# Altium integrated library Capacitors - Ceramic - 0402.IntLib: 4569 symbols (part 80 of 100)
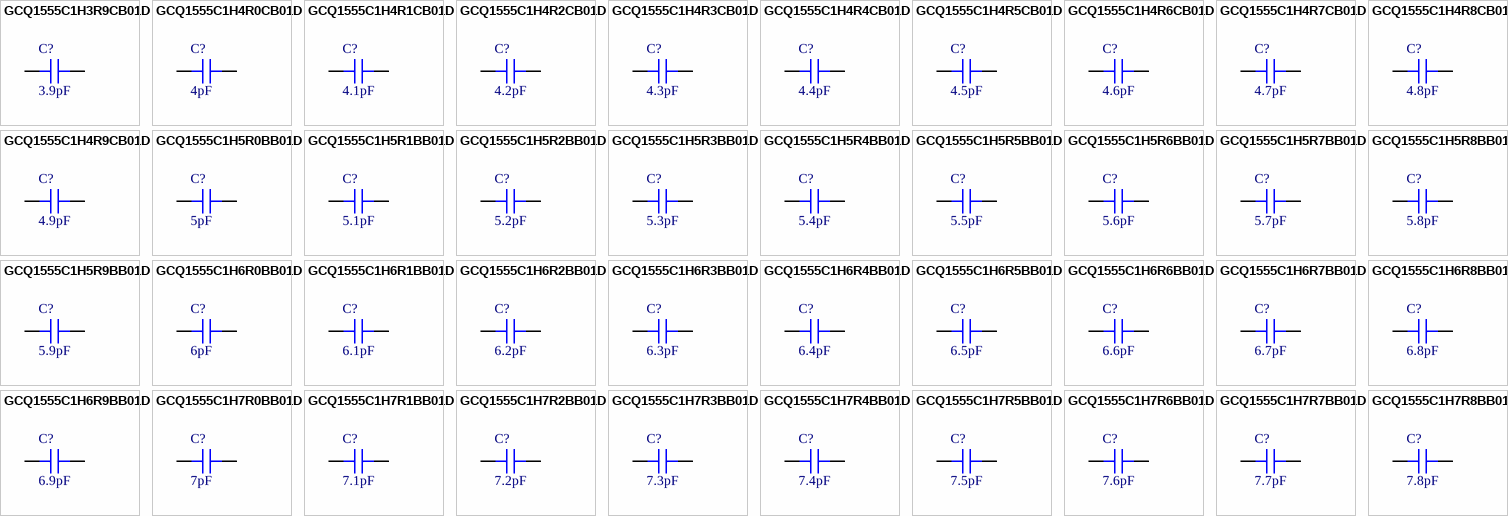
[diagram p193: symbols GCQ1555C1H3R9CB01D to GCQ1555C1H7R8BB01D]

## GCQ1555C1H5R9BB01D
designator C?, comment 5.9pF
CAP CER 5.9PF 50V C0G/NP0 0402; Part Number: GCQ1555C1H5R9BB01D; Manufacturer: Murata Electronics; Temperature Coefficient: C0G, NP0; Tolerance: ±0.1pF; Value: 5.9pF; Applications: RF, Microwave, High Frequency, Automotive; Capacitance: 5.9pF; ComponentLink1Description: Datasheet; ComponentLink1URL: https://search.murata.co.jp/Ceramy/image/img/A01X/G101/ENG/GCQ1555C1H5R9BB01-01.pdf; ComponentLink2Description: DigiKey Link; ComponentLink2URL: http://digikey.com/product-detail/en/murata-electronics/GCQ1555C1H5R9BB01D/490-17492-1-ND/7897664; Device Package: 0402 (1005 Metric); LastUpdated: 9/2/2020 1:01:52 AM; Lifecycle Status: Active; Minimum Order: 1; Mounting Type: Surface Mount, MLCC; Operating Temperature: -55°C ~ 125°C; Package / Case: 0402 (1005 Metric); Packaging: TapeAndReel; PartId: 12135; Part Status: Active; Price: 0.06; Ratings: AEC-Q200; Series: GCQ; Size / Dimension: 0.039" L x 0.020" W (1.00mm x 0.50mm); Supplier 1: DigiKey; Supplier Part Number 1: 490-17492-1-ND; Thickness (Max): 0.022" (0.55mm); Voltage - Rated: 50V
footprint CAP 0402_1005
pins: 1, 2

## GCQ1555C1H6R0BB01D
designator C?, comment 6pF
CAP CER 6PF 50V C0G/NP0 0402; Part Number: GCQ1555C1H6R0BB01D; Manufacturer: Murata Electronics; Temperature Coefficient: C0G, NP0; Tolerance: ±0.1pF; Value: 6pF; Applications: RF, Microwave, High Frequency, Automotive; Capacitance: 6pF; ComponentLink1Description: Datasheet; ComponentLink1URL: https://search.murata.co.jp/Ceramy/image/img/A01X/G101/ENG/GCQ1555C1H6R0BB01-01.pdf; ComponentLink2Description: DigiKey Link; ComponentLink2URL: http://digikey.com/product-detail/en/murata-electronics/GCQ1555C1H6R0BB01D/490-17493-1-ND/7897665; Device Package: 0402 (1005 Metric); LastUpdated: 9/2/2020 1:01:47 AM; Lifecycle Status: Active; Minimum Order: 1; Mounting Type: Surface Mount, MLCC; Operating Temperature: -55°C ~ 125°C; Package / Case: 0402 (1005 Metric); Packaging: TapeAndReel; PartId: 12294; Part Status: Active; Price: 0.06; Ratings: AEC-Q200; Series: GCQ; Size / Dimension: 0.039" L x 0.020" W (1.00mm x 0.50mm); Supplier 1: DigiKey; Supplier Part Number 1: 490-17493-1-ND; Thickness (Max): 0.022" (0.55mm); Voltage - Rated: 50V
footprint CAP 0402_1005
pins: 1, 2

## GCQ1555C1H6R1BB01D
designator C?, comment 6.1pF
CAP CER 6.1PF 50V C0G/NP0 0402; Part Number: GCQ1555C1H6R1BB01D; Manufacturer: Murata Electronics; Temperature Coefficient: C0G, NP0; Tolerance: ±0.1pF; Value: 6.1pF; Applications: RF, Microwave, High Frequency, Automotive; Capacitance: 6.1pF; ComponentLink1Description: Datasheet; ComponentLink1URL: https://search.murata.co.jp/Ceramy/image/img/A01X/G101/ENG/GCQ1555C1H6R1BB01-01.pdf; ComponentLink2Description: DigiKey Link; ComponentLink2URL: http://digikey.com/product-detail/en/murata-electronics/GCQ1555C1H6R1BB01D/490-17494-1-ND/7897666; Device Package: 0402 (1005 Metric); LastUpdated: 9/2/2020 1:01:18 AM; Lifecycle Status: Active; Minimum Order: 1; Mounting Type: Surface Mount, MLCC; Operating Temperature: -55°C ~ 125°C; Package / Case: 0402 (1005 Metric); Packaging: TapeAndReel; PartId: 13299; Part Status: Active; Price: 0.06; Ratings: AEC-Q200; Series: GCQ; Size / Dimension: 0.039" L x 0.020" W (1.00mm x 0.50mm); Supplier 1: DigiKey; Supplier Part Number 1: 490-17494-1-ND; Thickness (Max): 0.022" (0.55mm); Voltage - Rated: 50V
footprint CAP 0402_1005
pins: 1, 2

## GCQ1555C1H6R2BB01D
designator C?, comment 6.2pF
CAP CER 6.2PF 50V C0G/NP0 0402; Part Number: GCQ1555C1H6R2BB01D; Manufacturer: Murata Electronics; Temperature Coefficient: C0G, NP0; Tolerance: ±0.1pF; Value: 6.2pF; Applications: RF, Microwave, High Frequency, Automotive; Capacitance: 6.2pF; ComponentLink1Description: Datasheet; ComponentLink1URL: https://search.murata.co.jp/Ceramy/image/img/A01X/G101/ENG/GCQ1555C1H6R2BB01-01.pdf; ComponentLink2Description: DigiKey Link; ComponentLink2URL: http://digikey.com/product-detail/en/murata-electronics/GCQ1555C1H6R2BB01D/490-17495-1-ND/7897667; Device Package: 0402 (1005 Metric); LastUpdated: 9/2/2020 1:01:50 AM; Lifecycle Status: Active; Minimum Order: 1; Mounting Type: Surface Mount, MLCC; Operating Temperature: -55°C ~ 125°C; Package / Case: 0402 (1005 Metric); Packaging: TapeAndReel; PartId: 12191; Part Status: Active; Price: 0.06; Ratings: AEC-Q200; Series: GCQ; Size / Dimension: 0.039" L x 0.020" W (1.00mm x 0.50mm); Supplier 1: DigiKey; Supplier Part Number 1: 490-17495-1-ND; Thickness (Max): 0.022" (0.55mm); Voltage - Rated: 50V
footprint CAP 0402_1005
pins: 1, 2

## GCQ1555C1H6R3BB01D
designator C?, comment 6.3pF
CAP CER 6.3PF 50V C0G/NP0 0402; Part Number: GCQ1555C1H6R3BB01D; Manufacturer: Murata Electronics; Temperature Coefficient: C0G, NP0; Tolerance: ±0.1pF; Value: 6.3pF; Applications: RF, Microwave, High Frequency, Automotive; Capacitance: 6.3pF; ComponentLink1Description: Datasheet; ComponentLink1URL: https://search.murata.co.jp/Ceramy/image/img/A01X/G101/ENG/GCQ1555C1H6R3BB01-01.pdf; ComponentLink2Description: DigiKey Link; ComponentLink2URL: http://digikey.com/product-detail/en/murata-electronics/GCQ1555C1H6R3BB01D/490-17496-1-ND/7897668; Device Package: 0402 (1005 Metric); LastUpdated: 9/2/2020 1:01:51 AM; Lifecycle Status: Active; Minimum Order: 1; Mounting Type: Surface Mount, MLCC; Operating Temperature: -55°C ~ 125°C; Package / Case: 0402 (1005 Metric); Packaging: TapeAndReel; PartId: 12161; Part Status: Active; Price: 0.06; Ratings: AEC-Q200; Series: GCQ; Size / Dimension: 0.039" L x 0.020" W (1.00mm x 0.50mm); Supplier 1: DigiKey; Supplier Part Number 1: 490-17496-1-ND; Thickness (Max): 0.022" (0.55mm); Voltage - Rated: 50V
footprint CAP 0402_1005
pins: 1, 2

## GCQ1555C1H6R4BB01D
designator C?, comment 6.4pF
CAP CER 6.4PF 50V C0G/NP0 0402; Part Number: GCQ1555C1H6R4BB01D; Manufacturer: Murata Electronics; Temperature Coefficient: C0G, NP0; Tolerance: ±0.1pF; Value: 6.4pF; Applications: RF, Microwave, High Frequency, Automotive; Capacitance: 6.4pF; ComponentLink1Description: Datasheet; ComponentLink1URL: https://search.murata.co.jp/Ceramy/image/img/A01X/G101/ENG/GCQ1555C1H6R4BB01-01.pdf; ComponentLink2Description: DigiKey Link; ComponentLink2URL: http://digikey.com/product-detail/en/murata-electronics/GCQ1555C1H6R4BB01D/490-17497-1-ND/7897669; Device Package: 0402 (1005 Metric); LastUpdated: 9/2/2020 1:01:49 AM; Lifecycle Status: Active; Minimum Order: 1; Mounting Type: Surface Mount, MLCC; Operating Temperature: -55°C ~ 125°C; Package / Case: 0402 (1005 Metric); Packaging: TapeAndReel; PartId: 12234; Part Status: Active; Price: 0.06; Ratings: AEC-Q200; Series: GCQ; Size / Dimension: 0.039" L x 0.020" W (1.00mm x 0.50mm); Supplier 1: DigiKey; Supplier Part Number 1: 490-17497-1-ND; Thickness (Max): 0.022" (0.55mm); Voltage - Rated: 50V
footprint CAP 0402_1005
pins: 1, 2

## GCQ1555C1H6R5BB01D
designator C?, comment 6.5pF
CAP CER 6.5PF 50V C0G/NP0 0402; Part Number: GCQ1555C1H6R5BB01D; Manufacturer: Murata Electronics; Temperature Coefficient: C0G, NP0; Tolerance: ±0.1pF; Value: 6.5pF; Applications: RF, Microwave, High Frequency, Automotive; Capacitance: 6.5pF; ComponentLink1Description: Datasheet; ComponentLink1URL: https://search.murata.co.jp/Ceramy/image/img/A01X/G101/ENG/GCQ1555C1H6R5BB01-01.pdf; ComponentLink2Description: DigiKey Link; ComponentLink2URL: http://digikey.com/product-detail/en/murata-electronics/GCQ1555C1H6R5BB01D/490-17498-1-ND/7897670; Device Package: 0402 (1005 Metric); LastUpdated: 9/2/2020 1:01:49 AM; Lifecycle Status: Active; Minimum Order: 1; Mounting Type: Surface Mount, MLCC; Operating Temperature: -55°C ~ 125°C; Package / Case: 0402 (1005 Metric); Packaging: TapeAndReel; PartId: 12249; Part Status: Active; Price: 0.06; Ratings: AEC-Q200; Series: GCQ; Size / Dimension: 0.039" L x 0.020" W (1.00mm x 0.50mm); Supplier 1: DigiKey; Supplier Part Number 1: 490-17498-1-ND; Thickness (Max): 0.022" (0.55mm); Voltage - Rated: 50V
footprint CAP 0402_1005
pins: 1, 2

## GCQ1555C1H6R6BB01D
designator C?, comment 6.6pF
CAP CER 6.6PF 50V C0G/NP0 0402; Part Number: GCQ1555C1H6R6BB01D; Manufacturer: Murata Electronics; Temperature Coefficient: C0G, NP0; Tolerance: ±0.1pF; Value: 6.6pF; Applications: RF, Microwave, High Frequency, Automotive; Capacitance: 6.6pF; ComponentLink1Description: Datasheet; ComponentLink1URL: https://search.murata.co.jp/Ceramy/image/img/A01X/G101/ENG/GCQ1555C1H6R6BB01-01.pdf; ComponentLink2Description: DigiKey Link; ComponentLink2URL: http://digikey.com/product-detail/en/murata-electronics/GCQ1555C1H6R6BB01D/490-17499-1-ND/7897671; Device Package: 0402 (1005 Metric); LastUpdated: 9/2/2020 1:01:17 AM; Lifecycle Status: Active; Minimum Order: 1; Mounting Type: Surface Mount, MLCC; Operating Temperature: -55°C ~ 125°C; Package / Case: 0402 (1005 Metric); Packaging: TapeAndReel; PartId: 13320; Part Status: Active; Price: 0.06; Ratings: AEC-Q200; Series: GCQ; Size / Dimension: 0.039" L x 0.020" W (1.00mm x 0.50mm); Supplier 1: DigiKey; Supplier Part Number 1: 490-17499-1-ND; Thickness (Max): 0.022" (0.55mm); Voltage - Rated: 50V
footprint CAP 0402_1005
pins: 1, 2

## GCQ1555C1H6R7BB01D
designator C?, comment 6.7pF
CAP CER 6.7PF 50V C0G/NP0 0402; Part Number: GCQ1555C1H6R7BB01D; Manufacturer: Murata Electronics; Temperature Coefficient: C0G, NP0; Tolerance: ±0.1pF; Value: 6.7pF; Applications: RF, Microwave, High Frequency, Automotive; Capacitance: 6.7pF; ComponentLink1Description: Datasheet; ComponentLink1URL: https://search.murata.co.jp/Ceramy/image/img/A01X/G101/ENG/GCQ1555C1H6R7BB01-01.pdf; ComponentLink2Description: DigiKey Link; ComponentLink2URL: http://digikey.com/product-detail/en/murata-electronics/GCQ1555C1H6R7BB01D/490-17500-1-ND/7897672; Device Package: 0402 (1005 Metric); LastUpdated: 9/2/2020 1:01:51 AM; Lifecycle Status: Active; Minimum Order: 1; Mounting Type: Surface Mount, MLCC; Operating Temperature: -55°C ~ 125°C; Package / Case: 0402 (1005 Metric); Packaging: TapeAndReel; PartId: 12141; Part Status: Active; Price: 0.06; Ratings: AEC-Q200; Series: GCQ; Size / Dimension: 0.039" L x 0.020" W (1.00mm x 0.50mm); Supplier 1: DigiKey; Supplier Part Number 1: 490-17500-1-ND; Thickness (Max): 0.022" (0.55mm); Voltage - Rated: 50V
footprint CAP 0402_1005
pins: 1, 2

## GCQ1555C1H6R8BB01D
designator C?, comment 6.8pF
CAP CER 6.8PF 50V C0G/NP0 0402; Part Number: GCQ1555C1H6R8BB01D; Manufacturer: Murata Electronics; Temperature Coefficient: C0G, NP0; Tolerance: ±0.1pF; Value: 6.8pF; Applications: RF, Microwave, High Frequency, Automotive; Capacitance: 6.8pF; ComponentLink1Description: Datasheet; ComponentLink1URL: https://search.murata.co.jp/Ceramy/image/img/A01X/G101/ENG/GCQ1555C1H6R8BB01-01.pdf; ComponentLink2Description: DigiKey Link; ComponentLink2URL: http://digikey.com/product-detail/en/murata-electronics/GCQ1555C1H6R8BB01D/490-17501-1-ND/7897673; Device Package: 0402 (1005 Metric); LastUpdated: 9/2/2020 1:01:50 AM; Lifecycle Status: Active; Minimum Order: 1; Mounting Type: Surface Mount, MLCC; Operating Temperature: -55°C ~ 125°C; Package / Case: 0402 (1005 Metric); Packaging: TapeAndReel; PartId: 12185; Part Status: Active; Price: 0.06; Ratings: AEC-Q200; Series: GCQ; Size / Dimension: 0.039" L x 0.020" W (1.00mm x 0.50mm); Supplier 1: DigiKey; Supplier Part Number 1: 490-17501-1-ND; Thickness (Max): 0.022" (0.55mm); Voltage - Rated: 50V
footprint CAP 0402_1005
pins: 1, 2

## GCQ1555C1H6R9BB01D
designator C?, comment 6.9pF
CAP CER 6.9PF 50V C0G/NP0 0402; Part Number: GCQ1555C1H6R9BB01D; Manufacturer: Murata Electronics; Temperature Coefficient: C0G, NP0; Tolerance: ±0.1pF; Value: 6.9pF; Applications: RF, Microwave, High Frequency, Automotive; Capacitance: 6.9pF; ComponentLink1Description: Datasheet; ComponentLink1URL: https://search.murata.co.jp/Ceramy/image/img/A01X/G101/ENG/GCQ1555C1H6R9BB01-01.pdf; ComponentLink2Description: DigiKey Link; ComponentLink2URL: http://digikey.com/product-detail/en/murata-electronics/GCQ1555C1H6R9BB01D/490-17502-1-ND/7897674; Device Package: 0402 (1005 Metric); LastUpdated: 9/2/2020 1:01:18 AM; Lifecycle Status: Active; Minimum Order: 1; Mounting Type: Surface Mount, MLCC; Operating Temperature: -55°C ~ 125°C; Package / Case: 0402 (1005 Metric); Packaging: TapeAndReel; PartId: 13293; Part Status: Active; Price: 0.06; Ratings: AEC-Q200; Series: GCQ; Size / Dimension: 0.039" L x 0.020" W (1.00mm x 0.50mm); Supplier 1: DigiKey; Supplier Part Number 1: 490-17502-1-ND; Thickness (Max): 0.022" (0.55mm); Voltage - Rated: 50V
footprint CAP 0402_1005
pins: 1, 2

## GCQ1555C1H7R0BB01D
designator C?, comment 7pF
CAP CER 7PF 50V C0G/NP0 0402; Part Number: GCQ1555C1H7R0BB01D; Manufacturer: Murata Electronics; Temperature Coefficient: C0G, NP0; Tolerance: ±0.1pF; Value: 7pF; Applications: RF, Microwave, High Frequency, Automotive; Capacitance: 7pF; ComponentLink1Description: Datasheet; ComponentLink1URL: https://search.murata.co.jp/Ceramy/image/img/A01X/G101/ENG/GCQ1555C1H7R0BB01-01.pdf; ComponentLink2Description: DigiKey Link; ComponentLink2URL: http://digikey.com/product-detail/en/murata-electronics/GCQ1555C1H7R0BB01D/490-17503-1-ND/7897675; Device Package: 0402 (1005 Metric); LastUpdated: 9/2/2020 1:01:49 AM; Lifecycle Status: Active; Minimum Order: 1; Mounting Type: Surface Mount, MLCC; Operating Temperature: -55°C ~ 125°C; Package / Case: 0402 (1005 Metric); Packaging: TapeAndReel; PartId: 12252; Part Status: Active; Price: 0.06; Ratings: AEC-Q200; Series: GCQ; Size / Dimension: 0.039" L x 0.020" W (1.00mm x 0.50mm); Supplier 1: DigiKey; Supplier Part Number 1: 490-17503-1-ND; Thickness (Max): 0.022" (0.55mm); Voltage - Rated: 50V
footprint CAP 0402_1005
pins: 1, 2

## GCQ1555C1H7R1BB01D
designator C?, comment 7.1pF
CAP CER 7.1PF 50V C0G/NP0 0402; Part Number: GCQ1555C1H7R1BB01D; Manufacturer: Murata Electronics; Temperature Coefficient: C0G, NP0; Tolerance: ±0.1pF; Value: 7.1pF; Applications: RF, Microwave, High Frequency, Automotive; Capacitance: 7.1pF; ComponentLink1Description: Datasheet; ComponentLink1URL: https://search.murata.co.jp/Ceramy/image/img/A01X/G101/ENG/GCQ1555C1H7R1BB01-01.pdf; ComponentLink2Description: DigiKey Link; ComponentLink2URL: http://digikey.com/product-detail/en/murata-electronics/GCQ1555C1H7R1BB01D/490-17504-1-ND/7897676; Device Package: 0402 (1005 Metric); LastUpdated: 9/2/2020 1:01:50 AM; Lifecycle Status: Active; Minimum Order: 1; Mounting Type: Surface Mount, MLCC; Operating Temperature: -55°C ~ 125°C; Package / Case: 0402 (1005 Metric); Packaging: TapeAndReel; PartId: 12176; Part Status: Active; Price: 0.06; Ratings: AEC-Q200; Series: GCQ; Size / Dimension: 0.039" L x 0.020" W (1.00mm x 0.50mm); Supplier 1: DigiKey; Supplier Part Number 1: 490-17504-1-ND; Thickness (Max): 0.022" (0.55mm); Voltage - Rated: 50V
footprint CAP 0402_1005
pins: 1, 2

## GCQ1555C1H7R2BB01D
designator C?, comment 7.2pF
CAP CER 7.2PF 50V C0G/NP0 0402; Part Number: GCQ1555C1H7R2BB01D; Manufacturer: Murata Electronics; Temperature Coefficient: C0G, NP0; Tolerance: ±0.1pF; Value: 7.2pF; Applications: RF, Microwave, High Frequency, Automotive; Capacitance: 7.2pF; ComponentLink1Description: Datasheet; ComponentLink1URL: https://search.murata.co.jp/Ceramy/image/img/A01X/G101/ENG/GCQ1555C1H7R2BB01-01.pdf; ComponentLink2Description: DigiKey Link; ComponentLink2URL: http://digikey.com/product-detail/en/murata-electronics/GCQ1555C1H7R2BB01D/490-17505-1-ND/7897677; Device Package: 0402 (1005 Metric); LastUpdated: 9/2/2020 1:01:49 AM; Lifecycle Status: Active; Minimum Order: 1; Mounting Type: Surface Mount, MLCC; Operating Temperature: -55°C ~ 125°C; Package / Case: 0402 (1005 Metric); Packaging: TapeAndReel; PartId: 12222; Part Status: Active; Price: 0.06; Ratings: AEC-Q200; Series: GCQ; Size / Dimension: 0.039" L x 0.020" W (1.00mm x 0.50mm); Supplier 1: DigiKey; Supplier Part Number 1: 490-17505-1-ND; Thickness (Max): 0.022" (0.55mm); Voltage - Rated: 50V
footprint CAP 0402_1005
pins: 1, 2

## GCQ1555C1H7R3BB01D
designator C?, comment 7.3pF
CAP CER 7.3PF 50V C0G/NP0 0402; Part Number: GCQ1555C1H7R3BB01D; Manufacturer: Murata Electronics; Temperature Coefficient: C0G, NP0; Tolerance: ±0.1pF; Value: 7.3pF; Applications: RF, Microwave, High Frequency, Automotive; Capacitance: 7.3pF; ComponentLink1Description: Datasheet; ComponentLink1URL: https://search.murata.co.jp/Ceramy/image/img/A01X/G101/ENG/GCQ1555C1H7R3BB01-01.pdf; ComponentLink2Description: DigiKey Link; ComponentLink2URL: http://digikey.com/product-detail/en/murata-electronics/GCQ1555C1H7R3BB01D/490-17506-1-ND/7897678; Device Package: 0402 (1005 Metric); LastUpdated: 9/2/2020 1:01:52 AM; Lifecycle Status: Active; Minimum Order: 1; Mounting Type: Surface Mount, MLCC; Operating Temperature: -55°C ~ 125°C; Package / Case: 0402 (1005 Metric); Packaging: TapeAndReel; PartId: 12132; Part Status: Active; Price: 0.06; Ratings: AEC-Q200; Series: GCQ; Size / Dimension: 0.039" L x 0.020" W (1.00mm x 0.50mm); Supplier 1: DigiKey; Supplier Part Number 1: 490-17506-1-ND; Thickness (Max): 0.022" (0.55mm); Voltage - Rated: 50V
footprint CAP 0402_1005
pins: 1, 2

## GCQ1555C1H7R4BB01D
designator C?, comment 7.4pF
CAP CER 7.4PF 50V C0G/NP0 0402; Part Number: GCQ1555C1H7R4BB01D; Manufacturer: Murata Electronics; Temperature Coefficient: C0G, NP0; Tolerance: ±0.1pF; Value: 7.4pF; Applications: RF, Microwave, High Frequency, Automotive; Capacitance: 7.4pF; ComponentLink1Description: Datasheet; ComponentLink1URL: https://search.murata.co.jp/Ceramy/image/img/A01X/G101/ENG/GCQ1555C1H7R4BB01-01.pdf; ComponentLink2Description: DigiKey Link; ComponentLink2URL: http://digikey.com/product-detail/en/murata-electronics/GCQ1555C1H7R4BB01D/490-17507-1-ND/7897679; Device Package: 0402 (1005 Metric); LastUpdated: 9/2/2020 1:01:51 AM; Lifecycle Status: Active; Minimum Order: 1; Mounting Type: Surface Mount, MLCC; Operating Temperature: -55°C ~ 125°C; Package / Case: 0402 (1005 Metric); Packaging: TapeAndReel; PartId: 12173; Part Status: Active; Price: 0.06; Ratings: AEC-Q200; Series: GCQ; Size / Dimension: 0.039" L x 0.020" W (1.00mm x 0.50mm); Supplier 1: DigiKey; Supplier Part Number 1: 490-17507-1-ND; Thickness (Max): 0.022" (0.55mm); Voltage - Rated: 50V
footprint CAP 0402_1005
pins: 1, 2

## GCQ1555C1H7R5BB01D
designator C?, comment 7.5pF
CAP CER 7.5PF 50V C0G/NP0 0402; Part Number: GCQ1555C1H7R5BB01D; Manufacturer: Murata Electronics; Temperature Coefficient: C0G, NP0; Tolerance: ±0.1pF; Value: 7.5pF; Applications: RF, Microwave, High Frequency, Automotive; Capacitance: 7.5pF; ComponentLink1Description: Datasheet; ComponentLink1URL: https://search.murata.co.jp/Ceramy/image/img/A01X/G101/ENG/GCQ1555C1H7R5BB01-01.pdf; ComponentLink2Description: DigiKey Link; ComponentLink2URL: http://digikey.com/product-detail/en/murata-electronics/GCQ1555C1H7R5BB01D/490-17508-1-ND/7897680; Device Package: 0402 (1005 Metric); LastUpdated: 9/2/2020 1:01:50 AM; Lifecycle Status: Active; Minimum Order: 1; Mounting Type: Surface Mount, MLCC; Operating Temperature: -55°C ~ 125°C; Package / Case: 0402 (1005 Metric); Packaging: TapeAndReel; PartId: 12187; Part Status: Active; Price: 0.06; Ratings: AEC-Q200; Series: GCQ; Size / Dimension: 0.039" L x 0.020" W (1.00mm x 0.50mm); Supplier 1: DigiKey; Supplier Part Number 1: 490-17508-1-ND; Thickness (Max): 0.022" (0.55mm); Voltage - Rated: 50V
footprint CAP 0402_1005
pins: 1, 2

## GCQ1555C1H7R6BB01D
designator C?, comment 7.6pF
CAP CER 7.6PF 50V C0G/NP0 0402; Part Number: GCQ1555C1H7R6BB01D; Manufacturer: Murata Electronics; Temperature Coefficient: C0G, NP0; Tolerance: ±0.1pF; Value: 7.6pF; Applications: RF, Microwave, High Frequency, Automotive; Capacitance: 7.6pF; ComponentLink1Description: Datasheet; ComponentLink1URL: https://search.murata.co.jp/Ceramy/image/img/A01X/G101/ENG/GCQ1555C1H7R6BB01-01.pdf; ComponentLink2Description: DigiKey Link; ComponentLink2URL: http://digikey.com/product-detail/en/murata-electronics/GCQ1555C1H7R6BB01D/490-17509-1-ND/7897681; Device Package: 0402 (1005 Metric); LastUpdated: 9/2/2020 1:01:50 AM; Lifecycle Status: Active; Minimum Order: 1; Mounting Type: Surface Mount, MLCC; Operating Temperature: -55°C ~ 125°C; Package / Case: 0402 (1005 Metric); Packaging: TapeAndReel; PartId: 12210; Part Status: Active; Price: 0.06; Ratings: AEC-Q200; Series: GCQ; Size / Dimension: 0.039" L x 0.020" W (1.00mm x 0.50mm); Supplier 1: DigiKey; Supplier Part Number 1: 490-17509-1-ND; Thickness (Max): 0.022" (0.55mm); Voltage - Rated: 50V
footprint CAP 0402_1005
pins: 1, 2

## GCQ1555C1H7R7BB01D
designator C?, comment 7.7pF
CAP CER 7.7PF 50V C0G/NP0 0402; Part Number: GCQ1555C1H7R7BB01D; Manufacturer: Murata Electronics; Temperature Coefficient: C0G, NP0; Tolerance: ±0.1pF; Value: 7.7pF; Applications: RF, Microwave, High Frequency, Automotive; Capacitance: 7.7pF; ComponentLink1Description: Datasheet; ComponentLink1URL: https://search.murata.co.jp/Ceramy/image/img/A01X/G101/ENG/GCQ1555C1H7R7BB01-01.pdf; ComponentLink2Description: DigiKey Link; ComponentLink2URL: http://digikey.com/product-detail/en/murata-electronics/GCQ1555C1H7R7BB01D/490-17510-1-ND/7897682; Device Package: 0402 (1005 Metric); LastUpdated: 9/2/2020 1:01:50 AM; Lifecycle Status: Active; Minimum Order: 1; Mounting Type: Surface Mount, MLCC; Operating Temperature: -55°C ~ 125°C; Package / Case: 0402 (1005 Metric); Packaging: TapeAndReel; PartId: 12200; Part Status: Active; Price: 0.06; Ratings: AEC-Q200; Series: GCQ; Size / Dimension: 0.039" L x 0.020" W (1.00mm x 0.50mm); Supplier 1: DigiKey; Supplier Part Number 1: 490-17510-1-ND; Thickness (Max): 0.022" (0.55mm); Voltage - Rated: 50V
footprint CAP 0402_1005
pins: 1, 2

## GCQ1555C1H7R8BB01D
designator C?, comment 7.8pF
CAP CER 7.8PF 50V C0G/NP0 0402; Part Number: GCQ1555C1H7R8BB01D; Manufacturer: Murata Electronics; Temperature Coefficient: C0G, NP0; Tolerance: ±0.1pF; Value: 7.8pF; Applications: RF, Microwave, High Frequency, Automotive; Capacitance: 7.8pF; ComponentLink1Description: Datasheet; ComponentLink1URL: https://search.murata.co.jp/Ceramy/image/img/A01X/G101/ENG/GCQ1555C1H7R8BB01-01.pdf; ComponentLink2Description: DigiKey Link; ComponentLink2URL: http://digikey.com/product-detail/en/murata-electronics/GCQ1555C1H7R8BB01D/490-17511-1-ND/7897683; Device Package: 0402 (1005 Metric); LastUpdated: 9/2/2020 1:01:51 AM; Lifecycle Status: Active; Minimum Order: 1; Mounting Type: Surface Mount, MLCC; Operating Temperature: -55°C ~ 125°C; Package / Case: 0402 (1005 Metric); Packaging: TapeAndReel; PartId: 12158; Part Status: Active; Price: 0.06; Ratings: AEC-Q200; Series: GCQ; Size / Dimension: 0.039" L x 0.020" W (1.00mm x 0.50mm); Supplier 1: DigiKey; Supplier Part Number 1: 490-17511-1-ND; Thickness (Max): 0.022" (0.55mm); Voltage - Rated: 50V
footprint CAP 0402_1005
pins: 1, 2

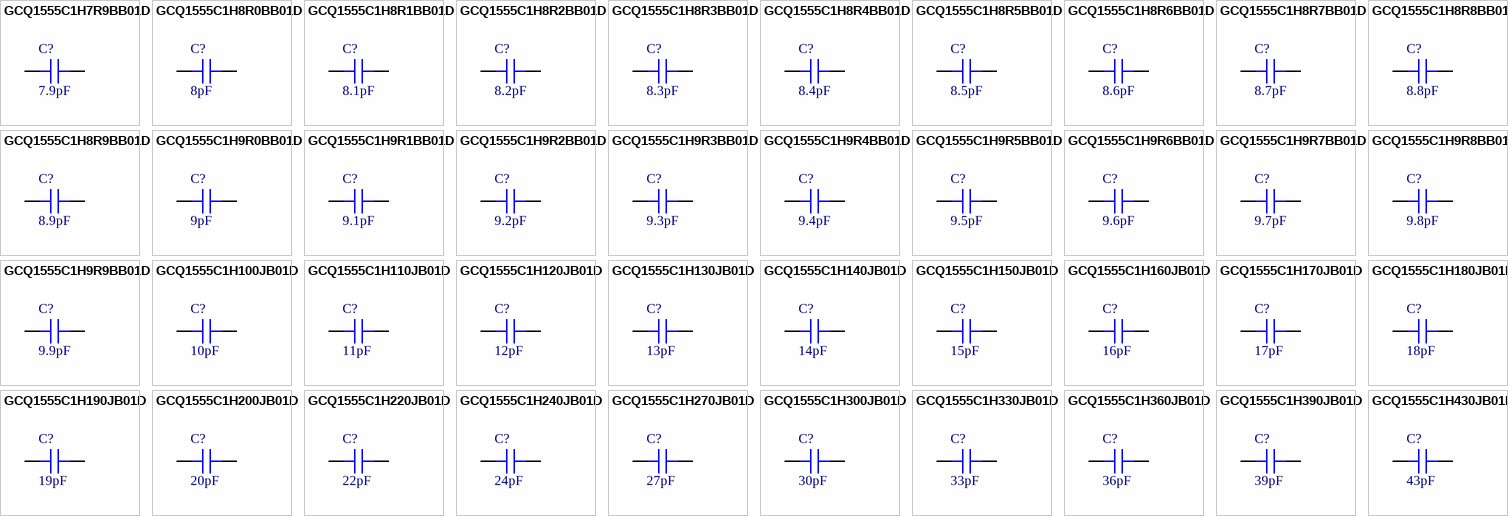
[diagram p91: symbols GCQ1555C1H7R9BB01D to GCQ1555C1H430JB01D]

## GCQ1555C1H7R9BB01D
designator C?, comment 7.9pF
CAP CER 7.9PF 50V C0G/NP0 0402; Part Number: GCQ1555C1H7R9BB01D; Manufacturer: Murata Electronics; Temperature Coefficient: C0G, NP0; Tolerance: ±0.1pF; Value: 7.9pF; Applications: RF, Microwave, High Frequency, Automotive; Capacitance: 7.9pF; ComponentLink1Description: Datasheet; ComponentLink1URL: https://search.murata.co.jp/Ceramy/image/img/A01X/G101/ENG/GCQ1555C1H7R9BB01-01.pdf; ComponentLink2Description: DigiKey Link; ComponentLink2URL: http://digikey.com/product-detail/en/murata-electronics/GCQ1555C1H7R9BB01D/490-17512-1-ND/7897684; Device Package: 0402 (1005 Metric); LastUpdated: 9/2/2020 1:01:51 AM; Lifecycle Status: Active; Minimum Order: 1; Mounting Type: Surface Mount, MLCC; Operating Temperature: -55°C ~ 125°C; Package / Case: 0402 (1005 Metric); Packaging: TapeAndReel; PartId: 12171; Part Status: Active; Price: 0.06; Ratings: AEC-Q200; Series: GCQ; Size / Dimension: 0.039" L x 0.020" W (1.00mm x 0.50mm); Supplier 1: DigiKey; Supplier Part Number 1: 490-17512-1-ND; Thickness (Max): 0.022" (0.55mm); Voltage - Rated: 50V
footprint CAP 0402_1005
pins: 1, 2

## GCQ1555C1H8R0BB01D
designator C?, comment 8pF
CAP CER 8PF 50V C0G/NP0 0402; Part Number: GCQ1555C1H8R0BB01D; Manufacturer: Murata Electronics; Temperature Coefficient: C0G, NP0; Tolerance: ±0.1pF; Value: 8pF; Applications: RF, Microwave, High Frequency, Automotive; Capacitance: 8pF; ComponentLink1Description: Datasheet; ComponentLink1URL: https://search.murata.co.jp/Ceramy/image/img/A01X/G101/ENG/GCQ1555C1H8R0BB01-01.pdf; ComponentLink2Description: DigiKey Link; ComponentLink2URL: http://digikey.com/product-detail/en/murata-electronics/GCQ1555C1H8R0BB01D/490-17513-1-ND/7897685; Device Package: 0402 (1005 Metric); LastUpdated: 9/2/2020 1:01:48 AM; Lifecycle Status: Active; Minimum Order: 1; Mounting Type: Surface Mount, MLCC; Operating Temperature: -55°C ~ 125°C; Package / Case: 0402 (1005 Metric); Packaging: TapeAndReel; PartId: 12267; Part Status: Active; Price: 0.06; Ratings: AEC-Q200; Series: GCQ; Size / Dimension: 0.039" L x 0.020" W (1.00mm x 0.50mm); Supplier 1: DigiKey; Supplier Part Number 1: 490-17513-1-ND; Thickness (Max): 0.022" (0.55mm); Voltage - Rated: 50V
footprint CAP 0402_1005
pins: 1, 2

## GCQ1555C1H8R1BB01D
designator C?, comment 8.1pF
CAP CER 8.1PF 50V C0G/NP0 0402; Part Number: GCQ1555C1H8R1BB01D; Manufacturer: Murata Electronics; Temperature Coefficient: C0G, NP0; Tolerance: ±0.1pF; Value: 8.1pF; Applications: RF, Microwave, High Frequency, Automotive; Capacitance: 8.1pF; ComponentLink1Description: Datasheet; ComponentLink1URL: https://search.murata.co.jp/Ceramy/image/img/A01X/G101/ENG/GCQ1555C1H8R1BB01-01.pdf; ComponentLink2Description: DigiKey Link; ComponentLink2URL: http://digikey.com/product-detail/en/murata-electronics/GCQ1555C1H8R1BB01D/490-17514-1-ND/7897686; Device Package: 0402 (1005 Metric); LastUpdated: 9/2/2020 1:01:17 AM; Lifecycle Status: Active; Minimum Order: 1; Mounting Type: Surface Mount, MLCC; Operating Temperature: -55°C ~ 125°C; Package / Case: 0402 (1005 Metric); Packaging: TapeAndReel; PartId: 13323; Part Status: Active; Price: 0.06; Ratings: AEC-Q200; Series: GCQ; Size / Dimension: 0.039" L x 0.020" W (1.00mm x 0.50mm); Supplier 1: DigiKey; Supplier Part Number 1: 490-17514-1-ND; Thickness (Max): 0.022" (0.55mm); Voltage - Rated: 50V
footprint CAP 0402_1005
pins: 1, 2

## GCQ1555C1H8R2BB01D
designator C?, comment 8.2pF
CAP CER 8.2PF 50V C0G/NP0 0402; Part Number: GCQ1555C1H8R2BB01D; Manufacturer: Murata Electronics; Temperature Coefficient: C0G, NP0; Tolerance: ±0.1pF; Value: 8.2pF; Applications: RF, Microwave, High Frequency, Automotive; Capacitance: 8.2pF; ComponentLink1Description: Datasheet; ComponentLink1URL: https://search.murata.co.jp/Ceramy/image/img/A01X/G101/ENG/GCQ1555C1H8R2BB01-01.pdf; ComponentLink2Description: DigiKey Link; ComponentLink2URL: http://digikey.com/product-detail/en/murata-electronics/GCQ1555C1H8R2BB01D/490-17515-1-ND/7897687; Device Package: 0402 (1005 Metric); LastUpdated: 9/2/2020 1:01:49 AM; Lifecycle Status: Active; Minimum Order: 1; Mounting Type: Surface Mount, MLCC; Operating Temperature: -55°C ~ 125°C; Package / Case: 0402 (1005 Metric); Packaging: TapeAndReel; PartId: 12219; Part Status: Active; Price: 0.06; Ratings: AEC-Q200; Series: GCQ; Size / Dimension: 0.039" L x 0.020" W (1.00mm x 0.50mm); Supplier 1: DigiKey; Supplier Part Number 1: 490-17515-1-ND; Thickness (Max): 0.022" (0.55mm); Voltage - Rated: 50V
footprint CAP 0402_1005
pins: 1, 2

## GCQ1555C1H8R3BB01D
designator C?, comment 8.3pF
CAP CER 8.3PF 50V C0G/NP0 0402; Part Number: GCQ1555C1H8R3BB01D; Manufacturer: Murata Electronics; Temperature Coefficient: C0G, NP0; Tolerance: ±0.1pF; Value: 8.3pF; Applications: RF, Microwave, High Frequency, Automotive; Capacitance: 8.3pF; ComponentLink1Description: Datasheet; ComponentLink1URL: https://search.murata.co.jp/Ceramy/image/img/A01X/G101/ENG/GCQ1555C1H8R3BB01-01.pdf; ComponentLink2Description: DigiKey Link; ComponentLink2URL: http://digikey.com/product-detail/en/murata-electronics/GCQ1555C1H8R3BB01D/490-17516-1-ND/7897688; Device Package: 0402 (1005 Metric); LastUpdated: 9/2/2020 1:01:18 AM; Lifecycle Status: Active; Minimum Order: 1; Mounting Type: Surface Mount, MLCC; Operating Temperature: -55°C ~ 125°C; Package / Case: 0402 (1005 Metric); Packaging: TapeAndReel; PartId: 13307; Part Status: Active; Price: 0.06; Ratings: AEC-Q200; Series: GCQ; Size / Dimension: 0.039" L x 0.020" W (1.00mm x 0.50mm); Supplier 1: DigiKey; Supplier Part Number 1: 490-17516-1-ND; Thickness (Max): 0.022" (0.55mm); Voltage - Rated: 50V
footprint CAP 0402_1005
pins: 1, 2

## GCQ1555C1H8R4BB01D
designator C?, comment 8.4pF
CAP CER 8.4PF 50V C0G/NP0 0402; Part Number: GCQ1555C1H8R4BB01D; Manufacturer: Murata Electronics; Temperature Coefficient: C0G, NP0; Tolerance: ±0.1pF; Value: 8.4pF; Applications: RF, Microwave, High Frequency, Automotive; Capacitance: 8.4pF; ComponentLink1Description: Datasheet; ComponentLink1URL: https://search.murata.co.jp/Ceramy/image/img/A01X/G101/ENG/GCQ1555C1H8R4BB01-01.pdf; ComponentLink2Description: DigiKey Link; ComponentLink2URL: http://digikey.com/product-detail/en/murata-electronics/GCQ1555C1H8R4BB01D/490-17517-1-ND/7897689; Device Package: 0402 (1005 Metric); LastUpdated: 9/2/2020 1:01:18 AM; Lifecycle Status: Active; Minimum Order: 1; Mounting Type: Surface Mount, MLCC; Operating Temperature: -55°C ~ 125°C; Package / Case: 0402 (1005 Metric); Packaging: TapeAndReel; PartId: 13304; Part Status: Active; Price: 0.06; Ratings: AEC-Q200; Series: GCQ; Size / Dimension: 0.039" L x 0.020" W (1.00mm x 0.50mm); Supplier 1: DigiKey; Supplier Part Number 1: 490-17517-1-ND; Thickness (Max): 0.022" (0.55mm); Voltage - Rated: 50V
footprint CAP 0402_1005
pins: 1, 2

## GCQ1555C1H8R5BB01D
designator C?, comment 8.5pF
CAP CER 8.5PF 50V C0G/NP0 0402; Part Number: GCQ1555C1H8R5BB01D; Manufacturer: Murata Electronics; Temperature Coefficient: C0G, NP0; Tolerance: ±0.1pF; Value: 8.5pF; Applications: RF, Microwave, High Frequency, Automotive; Capacitance: 8.5pF; ComponentLink1Description: Datasheet; ComponentLink1URL: https://search.murata.co.jp/Ceramy/image/img/A01X/G101/ENG/GCQ1555C1H8R5BB01-01.pdf; ComponentLink2Description: DigiKey Link; ComponentLink2URL: http://digikey.com/product-detail/en/murata-electronics/GCQ1555C1H8R5BB01D/490-17518-1-ND/7897690; Device Package: 0402 (1005 Metric); LastUpdated: 9/2/2020 1:01:48 AM; Lifecycle Status: Active; Minimum Order: 1; Mounting Type: Surface Mount, MLCC; Operating Temperature: -55°C ~ 125°C; Package / Case: 0402 (1005 Metric); Packaging: TapeAndReel; PartId: 12276; Part Status: Active; Price: 0.06; Ratings: AEC-Q200; Series: GCQ; Size / Dimension: 0.039" L x 0.020" W (1.00mm x 0.50mm); Supplier 1: DigiKey; Supplier Part Number 1: 490-17518-1-ND; Thickness (Max): 0.022" (0.55mm); Voltage - Rated: 50V
footprint CAP 0402_1005
pins: 1, 2

## GCQ1555C1H8R6BB01D
designator C?, comment 8.6pF
CAP CER 8.6PF 50V C0G/NP0 0402; Part Number: GCQ1555C1H8R6BB01D; Manufacturer: Murata Electronics; Temperature Coefficient: C0G, NP0; Tolerance: ±0.1pF; Value: 8.6pF; Applications: RF, Microwave, High Frequency, Automotive; Capacitance: 8.6pF; ComponentLink1Description: Datasheet; ComponentLink1URL: https://search.murata.co.jp/Ceramy/image/img/A01X/G101/ENG/GCQ1555C1H8R6BB01-01.pdf; ComponentLink2Description: DigiKey Link; ComponentLink2URL: http://digikey.com/product-detail/en/murata-electronics/GCQ1555C1H8R6BB01D/490-17519-1-ND/7897691; Device Package: 0402 (1005 Metric); LastUpdated: 9/2/2020 1:01:48 AM; Lifecycle Status: Active; Minimum Order: 1; Mounting Type: Surface Mount, MLCC; Operating Temperature: -55°C ~ 125°C; Package / Case: 0402 (1005 Metric); Packaging: TapeAndReel; PartId: 12261; Part Status: Active; Price: 0.06; Ratings: AEC-Q200; Series: GCQ; Size / Dimension: 0.039" L x 0.020" W (1.00mm x 0.50mm); Supplier 1: DigiKey; Supplier Part Number 1: 490-17519-1-ND; Thickness (Max): 0.022" (0.55mm); Voltage - Rated: 50V
footprint CAP 0402_1005
pins: 1, 2

## GCQ1555C1H8R7BB01D
designator C?, comment 8.7pF
CAP CER 8.7PF 50V C0G/NP0 0402; Part Number: GCQ1555C1H8R7BB01D; Manufacturer: Murata Electronics; Temperature Coefficient: C0G, NP0; Tolerance: ±0.1pF; Value: 8.7pF; Applications: RF, Microwave, High Frequency, Automotive; Capacitance: 8.7pF; ComponentLink1Description: Datasheet; ComponentLink1URL: https://search.murata.co.jp/Ceramy/image/img/A01X/G101/ENG/GCQ1555C1H8R7BB01-01.pdf; ComponentLink2Description: DigiKey Link; ComponentLink2URL: http://digikey.com/product-detail/en/murata-electronics/GCQ1555C1H8R7BB01D/490-17520-1-ND/7897692; Device Package: 0402 (1005 Metric); LastUpdated: 9/2/2020 1:02:09 AM; Lifecycle Status: Active; Minimum Order: 1; Mounting Type: Surface Mount, MLCC; Operating Temperature: -55°C ~ 125°C; Package / Case: 0402 (1005 Metric); Packaging: TapeAndReel; PartId: 8595; Part Status: Active; Price: 0.06; Ratings: AEC-Q200; Series: GCQ; Size / Dimension: 0.039" L x 0.020" W (1.00mm x 0.50mm); Supplier 1: DigiKey; Supplier Part Number 1: 490-17520-1-ND; Thickness (Max): 0.022" (0.55mm); Voltage - Rated: 50V
footprint CAP 0402_1005
pins: 1, 2

## GCQ1555C1H8R8BB01D
designator C?, comment 8.8pF
CAP CER 8.8PF 50V C0G/NP0 0402; Part Number: GCQ1555C1H8R8BB01D; Manufacturer: Murata Electronics; Temperature Coefficient: C0G, NP0; Tolerance: ±0.1pF; Value: 8.8pF; Applications: RF, Microwave, High Frequency, Automotive; Capacitance: 8.8pF; ComponentLink1Description: Datasheet; ComponentLink1URL: https://search.murata.co.jp/Ceramy/image/img/A01X/G101/ENG/GCQ1555C1H8R8BB01-01.pdf; ComponentLink2Description: DigiKey Link; ComponentLink2URL: http://digikey.com/product-detail/en/murata-electronics/GCQ1555C1H8R8BB01D/490-17521-1-ND/7897693; Device Package: 0402 (1005 Metric); LastUpdated: 9/2/2020 1:01:18 AM; Lifecycle Status: Active; Minimum Order: 1; Mounting Type: Surface Mount, MLCC; Operating Temperature: -55°C ~ 125°C; Package / Case: 0402 (1005 Metric); Packaging: TapeAndReel; PartId: 13315; Part Status: Active; Price: 0.06; Ratings: AEC-Q200; Series: GCQ; Size / Dimension: 0.039" L x 0.020" W (1.00mm x 0.50mm); Supplier 1: DigiKey; Supplier Part Number 1: 490-17521-1-ND; Thickness (Max): 0.022" (0.55mm); Voltage - Rated: 50V
footprint CAP 0402_1005
pins: 1, 2

## GCQ1555C1H8R9BB01D
designator C?, comment 8.9pF
CAP CER 8.9PF 50V C0G/NP0 0402; Part Number: GCQ1555C1H8R9BB01D; Manufacturer: Murata Electronics; Temperature Coefficient: C0G, NP0; Tolerance: ±0.1pF; Value: 8.9pF; Applications: RF, Microwave, High Frequency, Automotive; Capacitance: 8.9pF; ComponentLink1Description: Datasheet; ComponentLink1URL: https://search.murata.co.jp/Ceramy/image/img/A01X/G101/ENG/GCQ1555C1H8R9BB01-01.pdf; ComponentLink2Description: DigiKey Link; ComponentLink2URL: http://digikey.com/product-detail/en/murata-electronics/GCQ1555C1H8R9BB01D/490-17522-1-ND/7897694; Device Package: 0402 (1005 Metric); LastUpdated: 9/2/2020 1:01:51 AM; Lifecycle Status: Active; Minimum Order: 1; Mounting Type: Surface Mount, MLCC; Operating Temperature: -55°C ~ 125°C; Package / Case: 0402 (1005 Metric); Packaging: TapeAndReel; PartId: 12148; Part Status: Active; Price: 0.06; Ratings: AEC-Q200; Series: GCQ; Size / Dimension: 0.039" L x 0.020" W (1.00mm x 0.50mm); Supplier 1: DigiKey; Supplier Part Number 1: 490-17522-1-ND; Thickness (Max): 0.022" (0.55mm); Voltage - Rated: 50V
footprint CAP 0402_1005
pins: 1, 2

## GCQ1555C1H9R0BB01D
designator C?, comment 9pF
CAP CER 9PF 50V C0G/NP0 0402; Part Number: GCQ1555C1H9R0BB01D; Manufacturer: Murata Electronics; Temperature Coefficient: C0G, NP0; Tolerance: ±0.1pF; Value: 9pF; Applications: RF, Microwave, High Frequency, Automotive; Capacitance: 9pF; ComponentLink1Description: Datasheet; ComponentLink1URL: https://search.murata.co.jp/Ceramy/image/img/A01X/G101/ENG/GCQ1555C1H9R0BB01-01.pdf; ComponentLink2Description: DigiKey Link; ComponentLink2URL: http://digikey.com/product-detail/en/murata-electronics/GCQ1555C1H9R0BB01D/490-17523-1-ND/7897695; Device Package: 0402 (1005 Metric); LastUpdated: 9/2/2020 1:01:49 AM; Lifecycle Status: Active; Minimum Order: 1; Mounting Type: Surface Mount, MLCC; Operating Temperature: -55°C ~ 125°C; Package / Case: 0402 (1005 Metric); Packaging: TapeAndReel; PartId: 12256; Part Status: Active; Price: 0.06; Ratings: AEC-Q200; Series: GCQ; Size / Dimension: 0.039" L x 0.020" W (1.00mm x 0.50mm); Supplier 1: DigiKey; Supplier Part Number 1: 490-17523-1-ND; Thickness (Max): 0.022" (0.55mm); Voltage - Rated: 50V
footprint CAP 0402_1005
pins: 1, 2

## GCQ1555C1H9R1BB01D
designator C?, comment 9.1pF
CAP CER 9.1PF 50V C0G/NP0 0402; Part Number: GCQ1555C1H9R1BB01D; Manufacturer: Murata Electronics; Temperature Coefficient: C0G, NP0; Tolerance: ±0.1pF; Value: 9.1pF; Applications: RF, Microwave, High Frequency, Automotive; Capacitance: 9.1pF; ComponentLink1Description: Datasheet; ComponentLink1URL: https://search.murata.co.jp/Ceramy/image/img/A01X/G101/ENG/GCQ1555C1H9R1BB01-01.pdf; ComponentLink2Description: DigiKey Link; ComponentLink2URL: http://digikey.com/product-detail/en/murata-electronics/GCQ1555C1H9R1BB01D/490-17524-1-ND/7897696; Device Package: 0402 (1005 Metric); LastUpdated: 9/2/2020 1:01:51 AM; Lifecycle Status: Active; Minimum Order: 1; Mounting Type: Surface Mount, MLCC; Operating Temperature: -55°C ~ 125°C; Package / Case: 0402 (1005 Metric); Packaging: TapeAndReel; PartId: 12168; Part Status: Active; Price: 0.06; Ratings: AEC-Q200; Series: GCQ; Size / Dimension: 0.039" L x 0.020" W (1.00mm x 0.50mm); Supplier 1: DigiKey; Supplier Part Number 1: 490-17524-1-ND; Thickness (Max): 0.022" (0.55mm); Voltage - Rated: 50V
footprint CAP 0402_1005
pins: 1, 2

## GCQ1555C1H9R2BB01D
designator C?, comment 9.2pF
CAP CER 9.2PF 50V C0G/NP0 0402; Part Number: GCQ1555C1H9R2BB01D; Manufacturer: Murata Electronics; Temperature Coefficient: C0G, NP0; Tolerance: ±0.1pF; Value: 9.2pF; Applications: RF, Microwave, High Frequency, Automotive; Capacitance: 9.2pF; ComponentLink1Description: Datasheet; ComponentLink1URL: https://search.murata.co.jp/Ceramy/image/img/A01X/G101/ENG/GCQ1555C1H9R2BB01-01.pdf; ComponentLink2Description: DigiKey Link; ComponentLink2URL: http://digikey.com/product-detail/en/murata-electronics/GCQ1555C1H9R2BB01D/490-17525-1-ND/7897697; Device Package: 0402 (1005 Metric); LastUpdated: 9/2/2020 1:02:09 AM; Lifecycle Status: Active; Minimum Order: 1; Mounting Type: Surface Mount, MLCC; Operating Temperature: -55°C ~ 125°C; Package / Case: 0402 (1005 Metric); Packaging: TapeAndReel; PartId: 8603; Part Status: Active; Price: 0.06; Ratings: AEC-Q200; Series: GCQ; Size / Dimension: 0.039" L x 0.020" W (1.00mm x 0.50mm); Supplier 1: DigiKey; Supplier Part Number 1: 490-17525-1-ND; Thickness (Max): 0.022" (0.55mm); Voltage - Rated: 50V
footprint CAP 0402_1005
pins: 1, 2

## GCQ1555C1H9R3BB01D
designator C?, comment 9.3pF
CAP CER 9.3PF 50V C0G/NP0 0402; Part Number: GCQ1555C1H9R3BB01D; Manufacturer: Murata Electronics; Temperature Coefficient: C0G, NP0; Tolerance: ±0.1pF; Value: 9.3pF; Applications: RF, Microwave, High Frequency, Automotive; Capacitance: 9.3pF; ComponentLink1Description: Datasheet; ComponentLink1URL: https://search.murata.co.jp/Ceramy/image/img/A01X/G101/ENG/GCQ1555C1H9R3BB01-01.pdf; ComponentLink2Description: DigiKey Link; ComponentLink2URL: http://digikey.com/product-detail/en/murata-electronics/GCQ1555C1H9R3BB01D/490-17526-1-ND/7897698; Device Package: 0402 (1005 Metric); LastUpdated: 9/2/2020 1:01:18 AM; Lifecycle Status: Active; Minimum Order: 1; Mounting Type: Surface Mount, MLCC; Operating Temperature: -55°C ~ 125°C; Package / Case: 0402 (1005 Metric); Packaging: TapeAndReel; PartId: 13309; Part Status: Active; Price: 0.06; Ratings: AEC-Q200; Series: GCQ; Size / Dimension: 0.039" L x 0.020" W (1.00mm x 0.50mm); Supplier 1: DigiKey; Supplier Part Number 1: 490-17526-1-ND; Thickness (Max): 0.022" (0.55mm); Voltage - Rated: 50V
footprint CAP 0402_1005
pins: 1, 2

## GCQ1555C1H9R4BB01D
designator C?, comment 9.4pF
CAP CER 9.4PF 50V C0G/NP0 0402; Part Number: GCQ1555C1H9R4BB01D; Manufacturer: Murata Electronics; Temperature Coefficient: C0G, NP0; Tolerance: ±0.1pF; Value: 9.4pF; Applications: RF, Microwave, High Frequency, Automotive; Capacitance: 9.4pF; ComponentLink1Description: Datasheet; ComponentLink1URL: https://search.murata.co.jp/Ceramy/image/img/A01X/G101/ENG/GCQ1555C1H9R4BB01-01.pdf; ComponentLink2Description: DigiKey Link; ComponentLink2URL: http://digikey.com/product-detail/en/murata-electronics/GCQ1555C1H9R4BB01D/490-17527-1-ND/7897699; Device Package: 0402 (1005 Metric); LastUpdated: 9/2/2020 1:01:18 AM; Lifecycle Status: Active; Minimum Order: 1; Mounting Type: Surface Mount, MLCC; Operating Temperature: -55°C ~ 125°C; Package / Case: 0402 (1005 Metric); Packaging: TapeAndReel; PartId: 13312; Part Status: Active; Price: 0.06; Ratings: AEC-Q200; Series: GCQ; Size / Dimension: 0.039" L x 0.020" W (1.00mm x 0.50mm); Supplier 1: DigiKey; Supplier Part Number 1: 490-17527-1-ND; Thickness (Max): 0.022" (0.55mm); Voltage - Rated: 50V
footprint CAP 0402_1005
pins: 1, 2

## GCQ1555C1H9R5BB01D
designator C?, comment 9.5pF
CAP CER 9.5PF 50V C0G/NP0 0402; Part Number: GCQ1555C1H9R5BB01D; Manufacturer: Murata Electronics; Temperature Coefficient: C0G, NP0; Tolerance: ±0.1pF; Value: 9.5pF; Applications: RF, Microwave, High Frequency, Automotive; Capacitance: 9.5pF; ComponentLink1Description: Datasheet; ComponentLink1URL: https://search.murata.co.jp/Ceramy/image/img/A01X/G101/ENG/GCQ1555C1H9R5BB01-01.pdf; ComponentLink2Description: DigiKey Link; ComponentLink2URL: http://digikey.com/product-detail/en/murata-electronics/GCQ1555C1H9R5BB01D/490-17528-1-ND/7897700; Device Package: 0402 (1005 Metric); LastUpdated: 9/2/2020 1:02:09 AM; Lifecycle Status: Active; Minimum Order: 1; Mounting Type: Surface Mount, MLCC; Operating Temperature: -55°C ~ 125°C; Package / Case: 0402 (1005 Metric); Packaging: TapeAndReel; PartId: 8597; Part Status: Active; Price: 0.06; Ratings: AEC-Q200; Series: GCQ; Size / Dimension: 0.039" L x 0.020" W (1.00mm x 0.50mm); Supplier 1: DigiKey; Supplier Part Number 1: 490-17528-1-ND; Thickness (Max): 0.022" (0.55mm); Voltage - Rated: 50V
footprint CAP 0402_1005
pins: 1, 2

## GCQ1555C1H9R6BB01D
designator C?, comment 9.6pF
CAP CER 9.6PF 50V C0G/NP0 0402; Part Number: GCQ1555C1H9R6BB01D; Manufacturer: Murata Electronics; Temperature Coefficient: C0G, NP0; Tolerance: ±0.1pF; Value: 9.6pF; Applications: RF, Microwave, High Frequency, Automotive; Capacitance: 9.6pF; ComponentLink1Description: Datasheet; ComponentLink1URL: https://search.murata.co.jp/Ceramy/image/img/A01X/G101/ENG/GCQ1555C1H9R6BB01-01.pdf; ComponentLink2Description: DigiKey Link; ComponentLink2URL: http://digikey.com/product-detail/en/murata-electronics/GCQ1555C1H9R6BB01D/490-17529-1-ND/7897701; Device Package: 0402 (1005 Metric); LastUpdated: 9/2/2020 1:01:51 AM; Lifecycle Status: Active; Minimum Order: 1; Mounting Type: Surface Mount, MLCC; Operating Temperature: -55°C ~ 125°C; Package / Case: 0402 (1005 Metric); Packaging: TapeAndReel; PartId: 12146; Part Status: Active; Price: 0.06; Ratings: AEC-Q200; Series: GCQ; Size / Dimension: 0.039" L x 0.020" W (1.00mm x 0.50mm); Supplier 1: DigiKey; Supplier Part Number 1: 490-17529-1-ND; Thickness (Max): 0.022" (0.55mm); Voltage - Rated: 50V
footprint CAP 0402_1005
pins: 1, 2

## GCQ1555C1H9R7BB01D
designator C?, comment 9.7pF
CAP CER 9.7PF 50V C0G/NP0 0402; Part Number: GCQ1555C1H9R7BB01D; Manufacturer: Murata Electronics; Temperature Coefficient: C0G, NP0; Tolerance: ±0.1pF; Value: 9.7pF; Applications: RF, Microwave, High Frequency, Automotive; Capacitance: 9.7pF; ComponentLink1Description: Datasheet; ComponentLink1URL: https://search.murata.co.jp/Ceramy/image/img/A01X/G101/ENG/GCQ1555C1H9R7BB01-01.pdf; ComponentLink2Description: DigiKey Link; ComponentLink2URL: http://digikey.com/product-detail/en/murata-electronics/GCQ1555C1H9R7BB01D/490-17530-1-ND/7897702; Device Package: 0402 (1005 Metric); LastUpdated: 9/2/2020 1:01:49 AM; Lifecycle Status: Active; Minimum Order: 1; Mounting Type: Surface Mount, MLCC; Operating Temperature: -55°C ~ 125°C; Package / Case: 0402 (1005 Metric); Packaging: TapeAndReel; PartId: 12225; Part Status: Active; Price: 0.06; Ratings: AEC-Q200; Series: GCQ; Size / Dimension: 0.039" L x 0.020" W (1.00mm x 0.50mm); Supplier 1: DigiKey; Supplier Part Number 1: 490-17530-1-ND; Thickness (Max): 0.022" (0.55mm); Voltage - Rated: 50V
footprint CAP 0402_1005
pins: 1, 2

## GCQ1555C1H9R8BB01D
designator C?, comment 9.8pF
CAP CER 9.8PF 50V C0G/NP0 0402; Part Number: GCQ1555C1H9R8BB01D; Manufacturer: Murata Electronics; Temperature Coefficient: C0G, NP0; Tolerance: ±0.1pF; Value: 9.8pF; Applications: RF, Microwave, High Frequency, Automotive; Capacitance: 9.8pF; ComponentLink1Description: Datasheet; ComponentLink1URL: https://search.murata.co.jp/Ceramy/image/img/A01X/G101/ENG/GCQ1555C1H9R8BB01-01.pdf; ComponentLink2Description: DigiKey Link; ComponentLink2URL: http://digikey.com/product-detail/en/murata-electronics/GCQ1555C1H9R8BB01D/490-17531-1-ND/7897703; Device Package: 0402 (1005 Metric); LastUpdated: 9/2/2020 1:01:51 AM; Lifecycle Status: Active; Minimum Order: 1; Mounting Type: Surface Mount, MLCC; Operating Temperature: -55°C ~ 125°C; Package / Case: 0402 (1005 Metric); Packaging: TapeAndReel; PartId: 12153; Part Status: Active; Price: 0.06; Ratings: AEC-Q200; Series: GCQ; Size / Dimension: 0.039" L x 0.020" W (1.00mm x 0.50mm); Supplier 1: DigiKey; Supplier Part Number 1: 490-17531-1-ND; Thickness (Max): 0.022" (0.55mm); Voltage - Rated: 50V
footprint CAP 0402_1005
pins: 1, 2

## GCQ1555C1H9R9BB01D
designator C?, comment 9.9pF
CAP CER 9.9PF 50V C0G/NP0 0402; Part Number: GCQ1555C1H9R9BB01D; Manufacturer: Murata Electronics; Temperature Coefficient: C0G, NP0; Tolerance: ±0.1pF; Value: 9.9pF; Applications: RF, Microwave, High Frequency, Automotive; Capacitance: 9.9pF; ComponentLink1Description: Datasheet; ComponentLink1URL: https://search.murata.co.jp/Ceramy/image/img/A01X/G101/ENG/GCQ1555C1H9R9BB01-01.pdf; ComponentLink2Description: DigiKey Link; ComponentLink2URL: http://digikey.com/product-detail/en/murata-electronics/GCQ1555C1H9R9BB01D/490-17532-1-ND/7897704; Device Package: 0402 (1005 Metric); LastUpdated: 9/2/2020 1:01:18 AM; Lifecycle Status: Active; Minimum Order: 1; Mounting Type: Surface Mount, MLCC; Operating Temperature: -55°C ~ 125°C; Package / Case: 0402 (1005 Metric); Packaging: TapeAndReel; PartId: 13296; Part Status: Active; Price: 0.06; Ratings: AEC-Q200; Series: GCQ; Size / Dimension: 0.039" L x 0.020" W (1.00mm x 0.50mm); Supplier 1: DigiKey; Supplier Part Number 1: 490-17532-1-ND; Thickness (Max): 0.022" (0.55mm); Voltage - Rated: 50V
footprint CAP 0402_1005
pins: 1, 2

## GCQ1555C1H100JB01D
designator C?, comment 10pF
CAP CER 10PF 50V C0G/NP0 0402; Part Number: GCQ1555C1H100JB01D; Manufacturer: Murata Electronics; Temperature Coefficient: C0G, NP0; Tolerance: ±5%; Value: 10pF; Applications: RF, Microwave, High Frequency, Automotive; Capacitance: 10pF; ComponentLink1Description: Datasheet; ComponentLink1URL: https://search.murata.co.jp/Ceramy/image/img/A01X/G101/ENG/GCQ1555C1H100JB01-01.pdf; ComponentLink2Description: DigiKey Link; ComponentLink2URL: http://digikey.com/product-detail/en/murata-electronics/GCQ1555C1H100JB01D/490-17423-1-ND/7897595; Device Package: 0402 (1005 Metric); LastUpdated: 9/2/2020 1:02:12 AM; Lifecycle Status: Active; Minimum Order: 1; Mounting Type: Surface Mount, MLCC; Operating Temperature: -55°C ~ 125°C; Package / Case: 0402 (1005 Metric); Packaging: TapeAndReel; PartId: 7526; Part Status: Active; Price: 0.07; Ratings: AEC-Q200; Series: GCQ; Size / Dimension: 0.039" L x 0.020" W (1.00mm x 0.50mm); Supplier 1: DigiKey; Supplier Part Number 1: 490-17423-1-ND; Thickness (Max): 0.022" (0.55mm); Voltage - Rated: 50V
footprint CAP 0402_1005
pins: 1, 2

## GCQ1555C1H110JB01D
designator C?, comment 11pF
CAP CER 11PF 50V C0G/NP0 0402; Part Number: GCQ1555C1H110JB01D; Manufacturer: Murata Electronics; Temperature Coefficient: C0G, NP0; Tolerance: ±5%; Value: 11pF; Applications: RF, Microwave, High Frequency, Automotive; Capacitance: 11pF; ComponentLink1Description: Datasheet; ComponentLink1URL: https://search.murata.co.jp/Ceramy/image/img/A01X/G101/ENG/GCQ1555C1H110JB01-01.pdf; ComponentLink2Description: DigiKey Link; ComponentLink2URL: http://digikey.com/product-detail/en/murata-electronics/GCQ1555C1H110JB01D/490-17424-6-ND/7897740; Device Package: 0402 (1005 Metric); LastUpdated: 9/2/2020 1:02:23 AM; Lifecycle Status: Active; Minimum Order: 1; Mounting Type: Surface Mount, MLCC; Operating Temperature: -55°C ~ 125°C; Package / Case: 0402 (1005 Metric); Packaging: TapeAndReel; PartId: 2101; Part Status: Active; Price: 0.07; Ratings: AEC-Q200; Series: GCQ; Size / Dimension: 0.039" L x 0.020" W (1.00mm x 0.50mm); Supplier 1: DigiKey; Supplier Part Number 1: 490-17424-6-ND; Thickness (Max): 0.022" (0.55mm); Voltage - Rated: 50V
footprint CAP 0402_1005
pins: 1, 2

## GCQ1555C1H120JB01D
designator C?, comment 12pF
CAP CER 12PF 50V C0G/NP0 0402; Part Number: GCQ1555C1H120JB01D; Manufacturer: Murata Electronics; Temperature Coefficient: C0G, NP0; Tolerance: ±5%; Value: 12pF; Applications: RF, Microwave, High Frequency, Automotive; Capacitance: 12pF; ComponentLink1Description: Datasheet; ComponentLink1URL: https://search.murata.co.jp/Ceramy/image/img/A01X/G101/ENG/GCQ1555C1H120JB01-01.pdf; ComponentLink2Description: DigiKey Link; ComponentLink2URL: http://digikey.com/product-detail/en/murata-electronics/GCQ1555C1H120JB01D/490-17425-1-ND/7897597; Device Package: 0402 (1005 Metric); LastUpdated: 9/2/2020 1:02:23 AM; Lifecycle Status: Active; Minimum Order: 1; Mounting Type: Surface Mount, MLCC; Operating Temperature: -55°C ~ 125°C; Package / Case: 0402 (1005 Metric); Packaging: TapeAndReel; PartId: 2102; Part Status: Active; Price: 0.07; Ratings: AEC-Q200; Series: GCQ; Size / Dimension: 0.039" L x 0.020" W (1.00mm x 0.50mm); Supplier 1: DigiKey; Supplier Part Number 1: 490-17425-1-ND; Thickness (Max): 0.022" (0.55mm); Voltage - Rated: 50V
footprint CAP 0402_1005
pins: 1, 2